# Altium schematic symbol library LSF0204.Schlib: 1 symbol
Pins are listed as number, name and electrical type; pins without a type are passive.

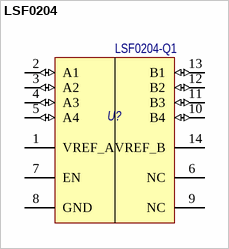
[diagram p0: symbol LSF0204]

## LSF0204
designator U?, comment LSF0204-Q1
Automotive Qualified 4-Bit Auto-Bidirectional Multi-Voltage Level Translator; Потребление, Вт: 0,001; Назначение: Automotive Qualified 4-Bit Auto-Bidirectional Multi-Voltage Level Translator; Наименование: LSF0204-Q1
footprint TSSOP-14 (TSSOP 14-pin 5.1x4.5mm)
pins: 1 VREF_A (power) "Logic Input A.", 2 A1 (io) "Logic Input A.", 3 A2 (io) "Logic Input A.", 4 A3 (io) "Logic Input A.", 5 A4 (io) "Logic Input A.", 6 NC (power) "Logic Input A.", 7 EN (power) "Logic Input A.", 8 GND (power) "Logic Input A.", 9 NC (power) "Logic Input A.", 10 B4 (io) "Logic Input A.", 11 B3 (io) "Logic Input A.", 12 B2 (io) "Logic Input A.", 13 B1 (io) "Logic Input A.", 14 VREF_B (power) "Logic Input A."